# EAGLE library part PCMF2HDMI2S (library PCMFXHDMI2S)
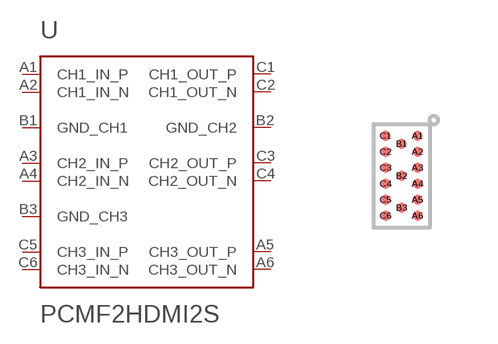
[diagram p1: symbol with the pads of WLCSP15; footprint WLCSP15]

Designator prefix U

## PCMF2HDMI2S  [WLCSP15]
A1  CH1_IN_P
A2  CH1_IN_N
A3  CH2_IN_P
A4  CH2_IN_N
A5  CH3_OUT_P
A6  CH3_OUT_N
B1  GND_CH1  pwr
B2  GND_CH2  pwr
B3  GND_CH3  pwr
C1  CH1_OUT_P
C2  CH1_OUT_N
C3  CH2_OUT_P
C4  CH2_OUT_N
C5  CH3_IN_P
C6  CH3_IN_N

## Footprint WLCSP15 (pad centres in mm)
smd 0.25 x 0.25: A1 0.4,1; A2 0.4,0.6; A3 0.4,0.2; A4 0.4,-0.2; A5 0.4,-0.6; A6 0.4,-1; B1 0,0.8; B2 0,0; B3 0,-0.8; C1 -0.4,1; C2 -0.4,0.6; C3 -0.4,0.2; C4 -0.4,-0.2; C5 -0.4,-0.6; C6 -0.4,-1